# Altium schematic symbol library SM15T33CA.SchLib: 1 symbol
Pins are listed as number, name and electrical type; pins without a type are passive.

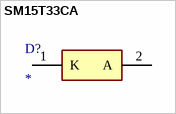
[diagram p0: symbol SM15T33CA]

## SM15T33CA
designator D?
Diode; Manufacturer_Name: STMicroelectronics; Manufacturer_Part_Number: SM15T33CA; Description: TVS Diode Bi-Directional SM15T33CA 59V; Allied_Number: 70390412; Datasheet Link: http://www.st.com/web/en/resource/technical/document/datasheet/CD00000724.pdf; Height: 2.65mm; Mouser Part Number: 511-SM15T33CA; Mouser Price/Stock: https://www.mouser.com/Search/Refine.aspx?Keyword=511-SM15T33CA; RS Part Number: 9196428; RS Price/Stock: https://uk.rs-online.com/web/p/products/9196428; Allied Price/Stock: http://www.alliedelec.com/stmicroelectronics-sm15t33ca/70390412/
footprint DIONM8059X265N
pins: 1 K, 2 A